# EAGLE library part 74LVC1T45 (library ChristiansCustom)
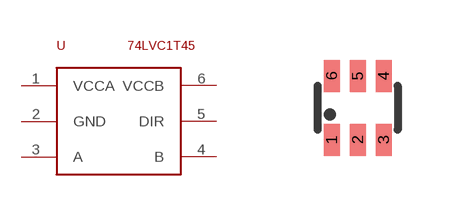
[diagram p4: symbol with the pads of SOT363; footprint SOT363]

Designator prefix -

## 74LVC1T45  [SOT363]
1  VCCA
2  GND
3  A
4  B
5  DIR
6  VCCB

## Footprint SOT363 (pad centres in mm)
SOT-363 (SC-706 Lead) Source: Data sheet <http://www.farnell.com/datasheets/461166.pdf>
smd 0.4 x 0.8: 1 -0.65,-0.8; 2 0,-0.8; 3 0.65,-0.8; 4 0.65,0.8; 5 0,0.8; 6 -0.65,0.8